# EAGLE library part STM32F031G4U6 (library STMicroelectrionics)
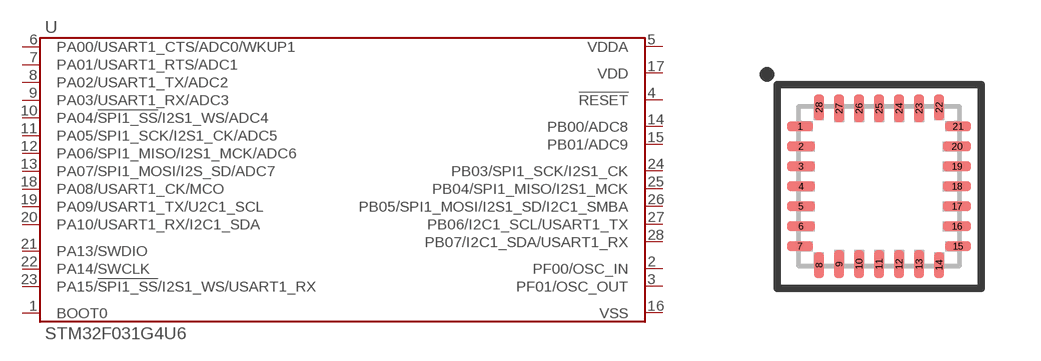
[diagram p10: symbol with the pads of QFN28-4X4; footprint QFN28-4X4]

Designator prefix U

## STM32F031G4U6  [QFN28-4X4]
1  BOOT0
2  PF00/OSC_IN
3  PF01/OSC_OUT
4  !RESET
5  VDDA
6  PA00/USART1_CTS/ADC0/WKUP1
7  PA01/USART1_RTS/ADC1
8  PA02/USART1_TX/ADC2
9  PA03/USART1_RX/ADC3
10  PA04/!SPI1_SS!/I2S1_WS/ADC4
11  PA05/SPI1_SCK/I2S1_CK/ADC5
12  PA06/SPI1_MISO/I2S1_MCK/ADC6
13  PA07/SPI1_MOSI/I2S_SD/ADC7
14  PB00/ADC8
15  PB01/ADC9
16  VSS
17  VDD
18  PA08/USART1_CK/MCO
19  PA09/USART1_TX/U2C1_SCL
20  PA10/USART1_RX/I2C1_SDA
21  PA13/SWDIO
22  PA14/SWCLK
23  PA15/!SPI1_SS!/I2S1_WS/USART1_RX
24  PB03/SPI1_SCK/I2S1_CK
25  PB04/SPI1_MISO/I2S1_MCK
26  PB05/SPI1_MOSI/I2S1_SD/I2C1_SMBA
27  PB06/I2C1_SCL/USART1_TX
28  PB07/I2C1_SDA/USART1_RX

## Footprint QFN28-4X4 (pad centres in mm)
smd 0.65 x 0.25: 1 -1.975,1.5; 7 -1.975,-1.5; 15 1.975,-1.5; 21 1.975,1.5
smd 0.7 x 0.25: 2 -1.95,1; 3 -1.95,0.5; 4 -1.95,0; 5 -1.95,-0.5; 6 -1.95,-1; 16 1.95,-1; 17 1.95,-0.5; 18 1.95,0; 19 1.95,0.5; 20 1.95,1
smd 0.25 x 0.65: 8 -1.5,-1.975; 14 1.5,-1.975; 22 1.5,1.975; 28 -1.5,1.975
smd 0.25 x 0.7: 9 -1,-1.95; 10 -0.5,-1.95; 11 0,-1.95; 12 0.5,-1.95; 13 1,-1.95; 23 1,1.95; 24 0.5,1.95; 25 0,1.95; 26 -0.5,1.95; 27 -1,1.95